# Altium schematic symbol library mojosv1.SchLib: 1 symbol
Pins are listed as number, name and electrical type; pins without a type are passive.

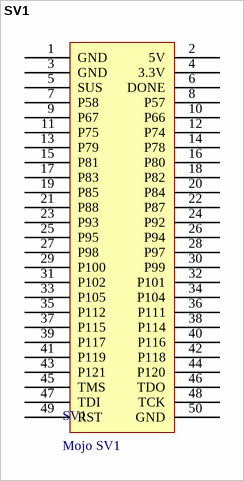
[diagram p0: symbol SV1]

## SV1
designator SV1, comment Mojo SV1
footprint PH25X2
pins: 1 GND, 2 5V, 3 GND, 4 3.3V, 5 SUS, 6 DONE, 7 P58, 8 P57, 9 P67, 10 P66, 11 P75, 12 P74, 13 P79, 14 P78, 15 P81, 16 P80, 17 P83, 18 P82, 19 P85, 20 P84, 21 P88, 22 P87, 23 P93, 24 P92, 25 P95, 26 P94, 27 P98, 28 P97, 29 P100, 30 P99, 31 P102, 32 P101, 33 P105, 34 P104, 35 P112, 36 P111, 37 P115, 38 P114, 39 P117, 40 P116, 41 P119, 42 P118, 43 P121, 44 P120, 45 TMS, 46 TDO, 47 TDI, 48 TCK, 49 RST, 50 GND